# EAGLE library part AT45DB*1E (library ARM926SBC)
SPI DataFlash, 256kB/512kB/1MB/2MB/4MB/8MB
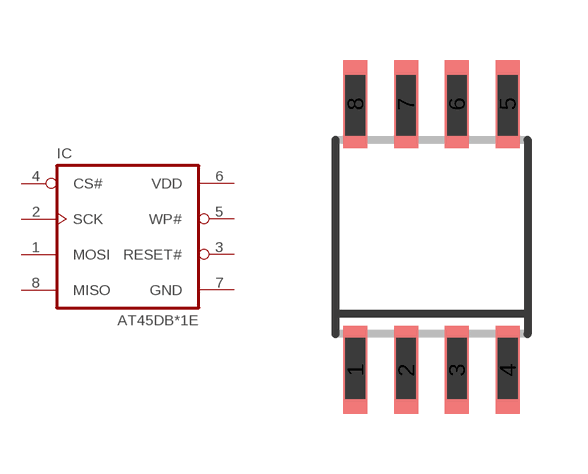
[diagram p4: symbol with the pads of SO-08M; footprint SO-08M]

Designator prefix IC

## AT45DB021E-S, AT45DB041E-S, AT45DB081E-S, AT45DB161E-S, AT45DB321E-S, AT45DB641E-S  [SO-08M]
1  MOSI  in
2  SCK  in
3  RESET#  oc
4  CS#  in
5  WP#  oc
6  VDD  pwr
7  GND  pwr
8  MISO  out

## Footprint SO-08M (pad centres in mm)
Small Outline Medium Plastic Gull Wing 207-mil body, package type SM
smd 0.6 x 2.2: 1 -1.905,-3.33; 2 -0.635,-3.33; 3 0.635,-3.33; 4 1.905,-3.33; 5 1.905,3.33; 6 0.635,3.33; 7 -0.635,3.33; 8 -1.905,3.33